# EAGLE library part PPTC061LFBN-RC (library PPTC061LFBN-RC)
CONN HEADER FEMALE 6POS .1" TIN Source: Datasheet <http://www.sullinscorp.com/drawings/78_P(N)PxCxxxLFBN-RC,_10492-H.pdf>
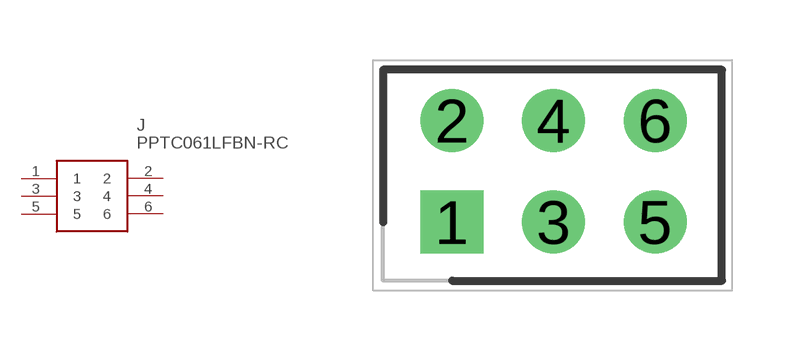
[diagram p0: symbol with the pads of SHDR6W87P254_2X3_812X508X870P; footprint SHDR6W87P254_2X3_812X508X870P]

Designator prefix J

## PPTC061LFBN-RC (Arrow_Part_Number: PPTC061LFBN-RC; Description: CONN HEADER FEMALE 6POS .1" TIN; Height: 8.7mm; Manufacturer_Name: Sullins; Manufacturer_Part_Number: PPTC061LFBN-RC)  [SHDR6W87P254_2X3_812X508X870P]
1  1
2  2
3  3
4  4
5  5
6  6

## Footprint SHDR6W87P254_2X3_812X508X870P (pad centres in mm)
PPTC061LFBN-RC
drill 1.05 pad 1.575 square: 1 0,0
drill 1.05 pad 1.575: 2 0,2.54; 3 2.54,0; 4 2.54,2.54; 5 5.08,0; 6 5.08,2.54